# Altium integrated library Texas Instruments Power Management PWM Controller.IntLib: 1227 symbols (part 6 of 49)
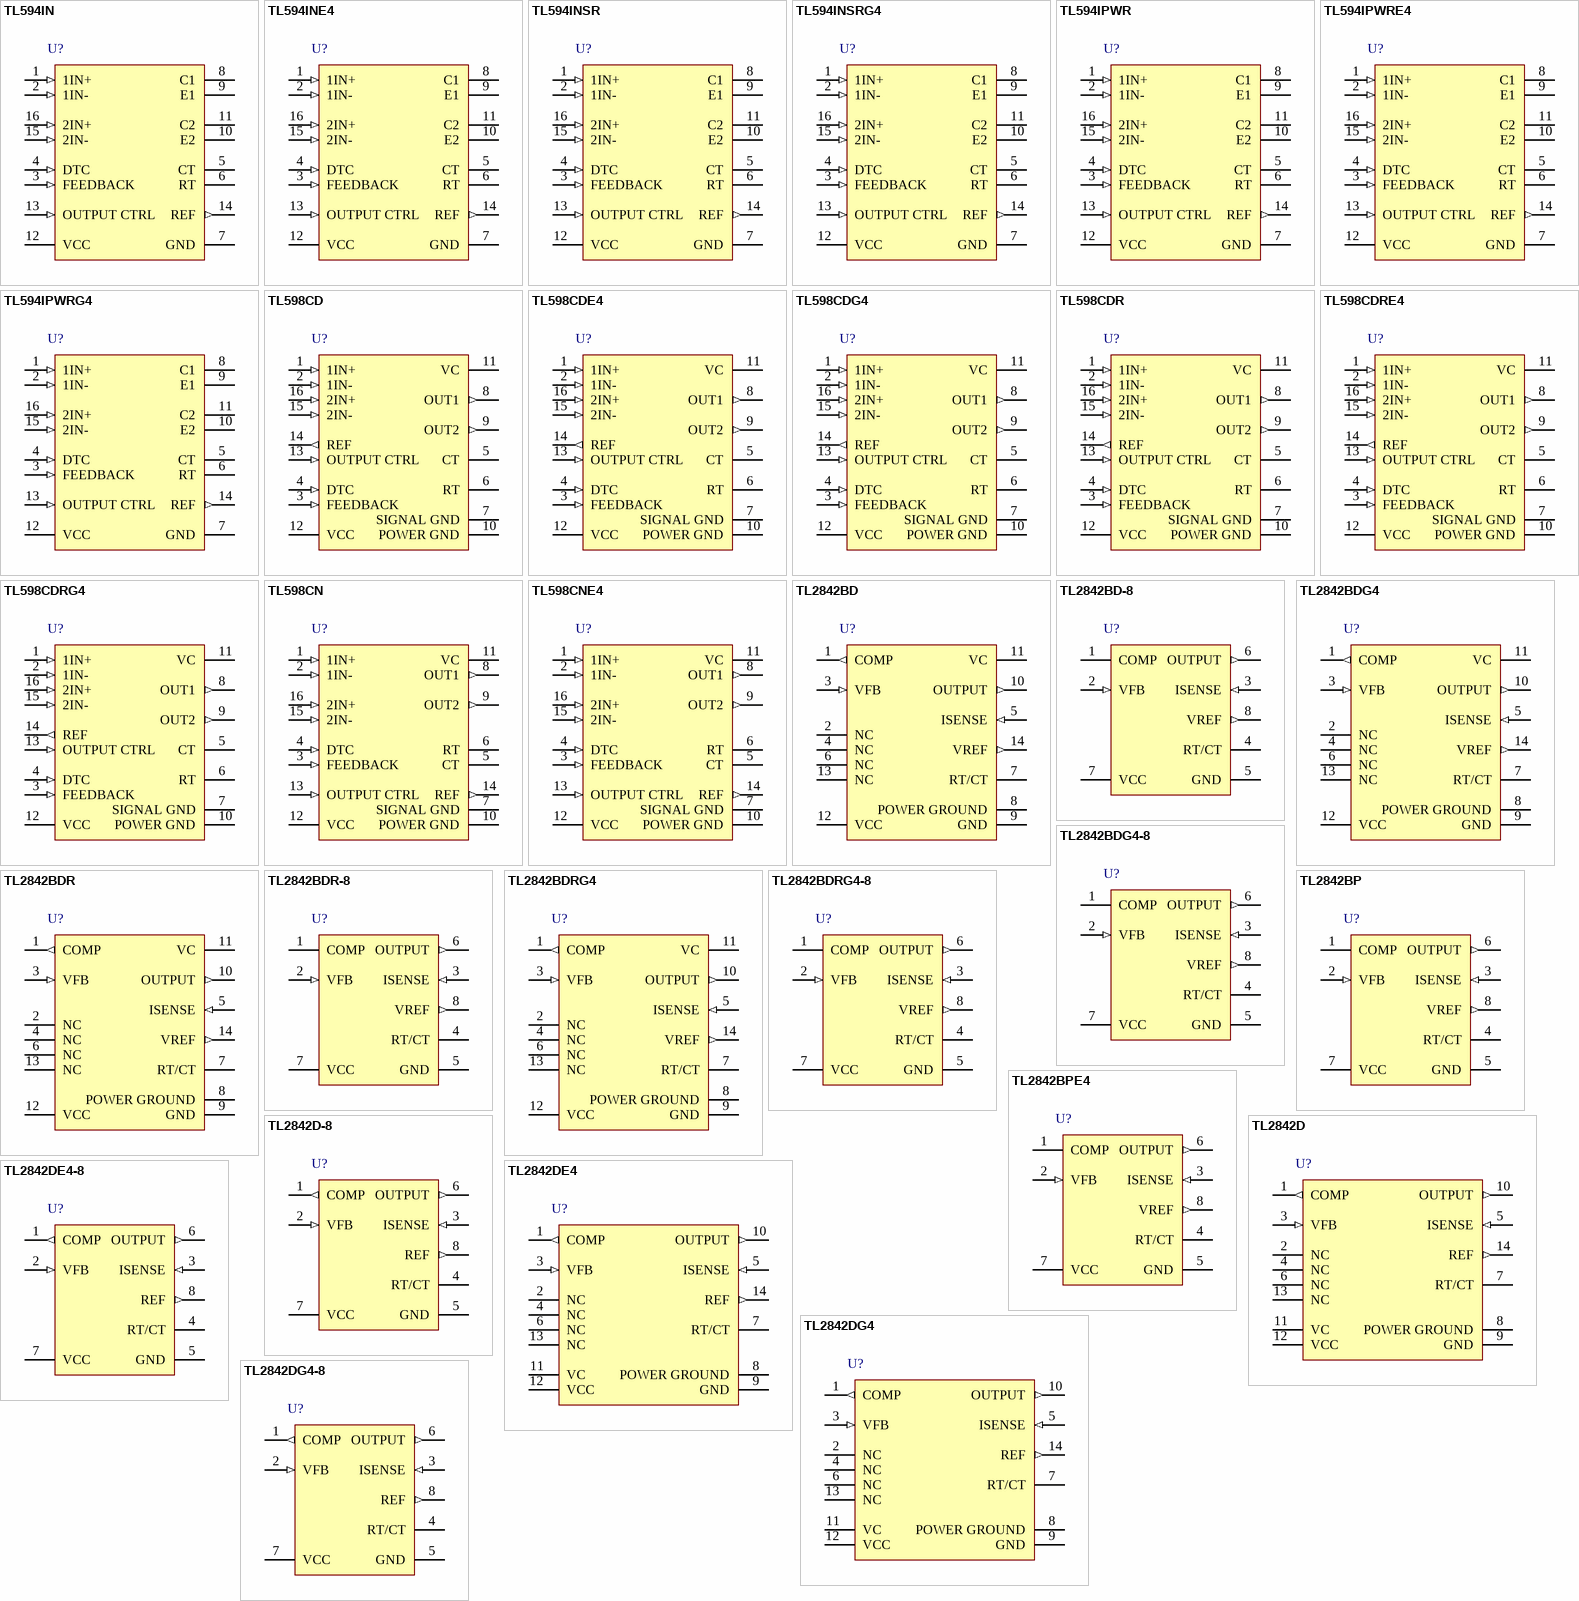
[diagram p48: symbols TL594IN to TL2842DG4-8]

## TL594IPWRE4
designator U?
Pulse-Width-Modulation Control Circuit with Voltage Control, 45 % Duty Cycle, -40 to +85 degC, 16-pin TSSOP (PW), Green (RoHS & no Sb/Br); PartNumber: TL594IPWRE4; Manufacturer: Texas Instruments; Duty Cycle(Max)(%): 45; Frequency(Max)(kHz): 300; Rating: Catalog; Regulated Outputs(#): 2; SubFamily: PWM Controller; Topology: Boost, Flyback, Forward; DatasheetVersion: SLVS052G; PackageVersion: revG, Feb-2011; PackageReference: PW16; PackageDescription: 16-Pin Plastic Thin Small Outline Package 5 x 4.4 mm Body ,0.65 mm Pitch; Supplier 1: Digi-Key; Supplier Part Number 1: TL594IPWRE4-ND; Supplier 2: Newark; Supplier Part Number 2: 69K0656; Supplier 3: Mouser; Supplier Part Number 3: 595-TL594IPWRE4; Control Method: Voltage; Eco-Plan: Green (RoHS & no Sb/Br); UVLO Thresholds On/Off(V): 6.1/6; Mounting Technology: Surface Mount; Code_JEDEC: MO-153; ComponentLink1Description: Datasheet; ComponentLink1URL: http://www.ti.com/general/docs/lit/getliterature.tsp?genericPartNumber=TL594&fileType=pdf
footprint PW16_N (TSOP, 16-Leads, Body 5x4.4mm, Pitch 0.65mm, IPC Medium Density)
footprint PW16_L (TSOP, 16-Leads, Body 5x4.4mm, Pitch 0.65mm, IPC High Density)
footprint PW16_M (TSOP, 16-Leads, Body 5x4.4mm, Pitch 0.65mm, IPC Low Density)
pins: 1 1IN+ (in), 2 1IN- (in), 3 FEEDBACK (in), 4 DTC (in), 5 CT, 6 RT, 7 GND (power), 8 C1, 9 E1, 10 E2, 11 C2, 12 VCC (power), 13 OUTPUT CTRL (in), 14 REF (out), 15 2IN- (in), 16 2IN+ (in)

## TL594IPWRG4
designator U?
Pulse-Width-Modulation Control Circuit with Voltage Control, 45 % Duty Cycle, -40 to +85 degC, 16-pin TSSOP (PW), Green (RoHS & no Sb/Br); PartNumber: TL594IPWRG4; Manufacturer: Texas Instruments; Duty Cycle(Max)(%): 45; Frequency(Max)(kHz): 300; Rating: Catalog; Regulated Outputs(#): 1; SubFamily: PWM Controller; Topology: Boost, Flyback, Forward; DatasheetVersion: SLVS052G; PackageVersion: revG, Feb-2011; PackageReference: PW16; PackageDescription: 16-Pin Plastic Thin Small Outline Package 5 x 4.4 mm Body ,0.65 mm Pitch; Supplier 1: Digi-Key; Supplier Part Number 1: TL594IPWRG4-ND; Supplier 2: Newark; Supplier Part Number 2: 40K9723; Supplier 3: Mouser; Supplier Part Number 3: 595-TL594IPWRG4; Control Method: Voltage; Eco-Plan: Green (RoHS & no Sb/Br); UVLO Thresholds On/Off(V): 6.1/6; Mounting Technology: Surface Mount; Code_JEDEC: MO-153; ComponentLink1Description: Datasheet; ComponentLink1URL: http://www.ti.com/general/docs/lit/getliterature.tsp?genericPartNumber=TL594&fileType=pdf
footprint PW16_N (TSOP, 16-Leads, Body 5x4.4mm, Pitch 0.65mm, IPC Medium Density)
footprint PW16_L (TSOP, 16-Leads, Body 5x4.4mm, Pitch 0.65mm, IPC High Density)
footprint PW16_M (TSOP, 16-Leads, Body 5x4.4mm, Pitch 0.65mm, IPC Low Density)
pins: 1 1IN+ (in), 2 1IN- (in), 3 FEEDBACK (in), 4 DTC (in), 5 CT, 6 RT, 7 GND (power), 8 C1, 9 E1, 10 E2, 11 C2, 12 VCC (power), 13 OUTPUT CTRL (in), 14 REF (out), 15 2IN- (in), 16 2IN+ (in)

## TL598CD
designator U?
Pulse-Width-Modulation Control Circuit with Voltage Control, 45 % Duty Cycle, 0 to +70 degC, 16-pin SOIC (D), Green (RoHS & no Sb/Br); PartNumber: TL598CD; Manufacturer: Texas Instruments; Duty Cycle(Max)(%): 45; Frequency(Max)(kHz): 300; Rating: Military; Regulated Outputs(#): 2; SubFamily: PWM Controller; Topology: Buck; DatasheetVersion: SLVS053D; PackageVersion: revM, Jun-2011; PackageReference: D16; PackageDescription: 16-Pin Plastic Small Outline Integrated Circuit, 9.9 x 3.9 mm, Pitch 1.27 mm Pitch; Supplier 1: Digi-Key; Supplier Part Number 1: 296-10225-5-ND; Supplier 2: Newark; Supplier Part Number 2: 76C9319; Supplier 3: Mouser; Supplier Part Number 3: 595-TL598CD; Control Method: Voltage; Eco-Plan: Green (RoHS & no Sb/Br); UVLO Thresholds On/Off(V): 6.1/6; Mounting Technology: Surface Mount; Code_JEDEC: MS-012AC; ComponentLink1Description: Datasheet; ComponentLink1URL: http://www.ti.com/general/docs/lit/getliterature.tsp?genericPartNumber=TL598&fileType=pdf
footprint D16_N (SOIC, 16-Leads, Body 9.9x3.9mm, Pitch 1.27mm, IPC Medium Density)
footprint D16_L (SOIC, 16-Leads, Body 9.9x3.9mm, Pitch 1.27mm, IPC High Density)
footprint D16_M (SOIC, 16-Leads, Body 9.9x3.9mm, Pitch 1.27mm, IPC Low Density)
pins: 1 1IN+ (in), 2 1IN- (in), 3 FEEDBACK (in), 4 DTC (in), 5 CT, 6 RT, 7 SIGNAL GND (power), 8 OUT1 (out), 9 OUT2 (out), 10 POWER GND (power), 11 VC (power), 12 VCC (power), 13 OUTPUT CTRL (in), 14 REF (out), 15 2IN- (in), 16 2IN+ (in)

## TL598CDE4
designator U?
Pulse-Width-Modulation Control Circuit with Voltage Control, 45 % Duty Cycle, 0 to +70 degC, 16-pin SOIC (D), Green (RoHS & no Sb/Br); PartNumber: TL598CDE4; Manufacturer: Texas Instruments; Duty Cycle(Max)(%): 45; Frequency(Max)(kHz): 300; Rating: Military; Regulated Outputs(#): 2; SubFamily: PWM Controller; Topology: Buck; DatasheetVersion: SLVS053D; PackageVersion: revM, Jun-2011; PackageReference: D16; PackageDescription: 16-Pin Plastic Small Outline Integrated Circuit, 9.9 x 3.9 mm, Pitch 1.27 mm Pitch; Supplier 1: Digi-Key; Supplier Part Number 1: TL598CDE4-ND; Supplier 2: Newark; Supplier Part Number 2: 37K4555; Supplier 3: Mouser; Supplier Part Number 3: 595-TL598CDE4; Control Method: Voltage; Eco-Plan: Green (RoHS & no Sb/Br); UVLO Thresholds On/Off(V): 6.1/6; Mounting Technology: Surface Mount; Code_JEDEC: MS-012AC; ComponentLink1Description: Datasheet; ComponentLink1URL: http://www.ti.com/general/docs/lit/getliterature.tsp?genericPartNumber=TL598&fileType=pdf
footprint D16_N (SOIC, 16-Leads, Body 9.9x3.9mm, Pitch 1.27mm, IPC Medium Density)
footprint D16_L (SOIC, 16-Leads, Body 9.9x3.9mm, Pitch 1.27mm, IPC High Density)
footprint D16_M (SOIC, 16-Leads, Body 9.9x3.9mm, Pitch 1.27mm, IPC Low Density)
pins: 1 1IN+ (in), 2 1IN- (in), 3 FEEDBACK (in), 4 DTC (in), 5 CT, 6 RT, 7 SIGNAL GND (power), 8 OUT1 (out), 9 OUT2 (out), 10 POWER GND (power), 11 VC (power), 12 VCC (power), 13 OUTPUT CTRL (in), 14 REF (out), 15 2IN- (in), 16 2IN+ (in)

## TL598CDG4
designator U?
Pulse-Width-Modulation Control Circuit with Voltage Control, 45 % Duty Cycle, 0 to +70 degC, 16-pin SOIC (D), Green (RoHS & no Sb/Br); PartNumber: TL598CDG4; Manufacturer: Texas Instruments; Duty Cycle(Max)(%): 45; Frequency(Max)(kHz): 300; Rating: Military; Regulated Outputs(#): 2; SubFamily: PWM Controller; Topology: Buck; DatasheetVersion: SLVS053D; PackageVersion: revM, Jun-2011; PackageReference: D16; PackageDescription: 16-Pin Plastic Small Outline Integrated Circuit, 9.9 x 3.9 mm, Pitch 1.27 mm Pitch; Supplier 1: Digi-Key; Supplier Part Number 1: TL598CDG4-ND; Supplier 2: Newark; Supplier Part Number 2: 41M5774; Supplier 3: Mouser; Supplier Part Number 3: 595-TL598CDG4; Control Method: Voltage; Eco-Plan: Green (RoHS & no Sb/Br); UVLO Thresholds On/Off(V): 6.1/6; Mounting Technology: Surface Mount; Code_JEDEC: MS-012AC; ComponentLink1Description: Datasheet; ComponentLink1URL: http://www.ti.com/general/docs/lit/getliterature.tsp?genericPartNumber=TL598&fileType=pdf
footprint D16_N (SOIC, 16-Leads, Body 9.9x3.9mm, Pitch 1.27mm, IPC Medium Density)
footprint D16_L (SOIC, 16-Leads, Body 9.9x3.9mm, Pitch 1.27mm, IPC High Density)
footprint D16_M (SOIC, 16-Leads, Body 9.9x3.9mm, Pitch 1.27mm, IPC Low Density)
pins: 1 1IN+ (in), 2 1IN- (in), 3 FEEDBACK (in), 4 DTC (in), 5 CT, 6 RT, 7 SIGNAL GND (power), 8 OUT1 (out), 9 OUT2 (out), 10 POWER GND (power), 11 VC (power), 12 VCC (power), 13 OUTPUT CTRL (in), 14 REF (out), 15 2IN- (in), 16 2IN+ (in)

## TL598CDR
designator U?
Pulse-Width-Modulation Control Circuit with Voltage Control, 45 % Duty Cycle, 0 to +70 degC, 16-pin SOIC (D), Green (RoHS & no Sb/Br); PartNumber: TL598CDR; Manufacturer: Texas Instruments; Duty Cycle(Max)(%): 45; Frequency(Max)(kHz): 300; Rating: Military; Regulated Outputs(#): 2; SubFamily: PWM Controller; Topology: Buck; DatasheetVersion: SLVS053D; PackageVersion: revM, Jun-2011; PackageReference: D16; PackageDescription: 16-Pin Plastic Small Outline Integrated Circuit, 9.9 x 3.9 mm, Pitch 1.27 mm Pitch; Supplier 1: Digi-Key; Supplier Part Number 1: TL598CDR-ND; Supplier 2: Newark; Supplier Part Number 2: 76C9320; Supplier 3: Mouser; Supplier Part Number 3: 595-TL598CDR; Control Method: Voltage; Eco-Plan: Green (RoHS & no Sb/Br); UVLO Thresholds On/Off(V): 6.1/6; Mounting Technology: Surface Mount; Code_JEDEC: MS-012AC; ComponentLink1Description: Datasheet; ComponentLink1URL: http://www.ti.com/general/docs/lit/getliterature.tsp?genericPartNumber=TL598&fileType=pdf
footprint D16_N (SOIC, 16-Leads, Body 9.9x3.9mm, Pitch 1.27mm, IPC Medium Density)
footprint D16_L (SOIC, 16-Leads, Body 9.9x3.9mm, Pitch 1.27mm, IPC High Density)
footprint D16_M (SOIC, 16-Leads, Body 9.9x3.9mm, Pitch 1.27mm, IPC Low Density)
pins: 1 1IN+ (in), 2 1IN- (in), 3 FEEDBACK (in), 4 DTC (in), 5 CT, 6 RT, 7 SIGNAL GND (power), 8 OUT1 (out), 9 OUT2 (out), 10 POWER GND (power), 11 VC (power), 12 VCC (power), 13 OUTPUT CTRL (in), 14 REF (out), 15 2IN- (in), 16 2IN+ (in)

## TL598CDRE4
designator U?
Pulse-Width-Modulation Control Circuit with Voltage Control, 45 % Duty Cycle, 0 to +70 degC, 16-pin SOIC (D), Green (RoHS & no Sb/Br); PartNumber: TL598CDRE4; Manufacturer: Texas Instruments; Duty Cycle(Max)(%): 45; Frequency(Max)(kHz): 300; Rating: Military; Regulated Outputs(#): 2; SubFamily: PWM Controller; Topology: Buck; DatasheetVersion: SLVS053D; PackageVersion: revM, Jun-2011; PackageReference: D16; PackageDescription: 16-Pin Plastic Small Outline Integrated Circuit, 9.9 x 3.9 mm, Pitch 1.27 mm Pitch; Supplier 1: Digi-Key; Supplier Part Number 1: TL598CDRE4-ND; Supplier 2: Newark; Supplier Part Number 2: 37K4556; Supplier 3: Mouser; Supplier Part Number 3: 595-TL598CDRE4; Control Method: Voltage; Eco-Plan: Green (RoHS & no Sb/Br); UVLO Thresholds On/Off(V): 6.1/6; Mounting Technology: Surface Mount; Code_JEDEC: MS-012AC; ComponentLink1Description: Datasheet; ComponentLink1URL: http://www.ti.com/general/docs/lit/getliterature.tsp?genericPartNumber=TL598&fileType=pdf
footprint D16_N (SOIC, 16-Leads, Body 9.9x3.9mm, Pitch 1.27mm, IPC Medium Density)
footprint D16_L (SOIC, 16-Leads, Body 9.9x3.9mm, Pitch 1.27mm, IPC High Density)
footprint D16_M (SOIC, 16-Leads, Body 9.9x3.9mm, Pitch 1.27mm, IPC Low Density)
pins: 1 1IN+ (in), 2 1IN- (in), 3 FEEDBACK (in), 4 DTC (in), 5 CT, 6 RT, 7 SIGNAL GND (power), 8 OUT1 (out), 9 OUT2 (out), 10 POWER GND (power), 11 VC (power), 12 VCC (power), 13 OUTPUT CTRL (in), 14 REF (out), 15 2IN- (in), 16 2IN+ (in)

## TL598CDRG4
designator U?
Pulse-Width-Modulation Control Circuit with Voltage Control, 45 % Duty Cycle, 0 to +70 degC, 16-pin SOIC (D), Green (RoHS & no Sb/Br); PartNumber: TL598CDRG4; Manufacturer: Texas Instruments; Duty Cycle(Max)(%): 45; Frequency(Max)(kHz): 300; Rating: Military; Regulated Outputs(#): 2; SubFamily: PWM Controller; Topology: Buck; DatasheetVersion: SLVS053D; PackageVersion: revM, Jun-2011; PackageReference: D16; PackageDescription: 16-Pin Plastic Small Outline Integrated Circuit, 9.9 x 3.9 mm, Pitch 1.27 mm Pitch; Supplier 1: Digi-Key; Supplier Part Number 1: TL598CDRG4-ND; Supplier 2: Newark; Supplier Part Number 2: 41M5775; Supplier 3: Mouser; Supplier Part Number 3: 595-TL598CDRG4; Control Method: Voltage; Eco-Plan: Green (RoHS & no Sb/Br); UVLO Thresholds On/Off(V): 6.1/6; Mounting Technology: Surface Mount; Code_JEDEC: MS-012AC; ComponentLink1Description: Datasheet; ComponentLink1URL: http://www.ti.com/general/docs/lit/getliterature.tsp?genericPartNumber=TL598&fileType=pdf
footprint D16_N (SOIC, 16-Leads, Body 9.9x3.9mm, Pitch 1.27mm, IPC Medium Density)
footprint D16_L (SOIC, 16-Leads, Body 9.9x3.9mm, Pitch 1.27mm, IPC High Density)
footprint D16_M (SOIC, 16-Leads, Body 9.9x3.9mm, Pitch 1.27mm, IPC Low Density)
pins: 1 1IN+ (in), 2 1IN- (in), 3 FEEDBACK (in), 4 DTC (in), 5 CT, 6 RT, 7 SIGNAL GND (power), 8 OUT1 (out), 9 OUT2 (out), 10 POWER GND (power), 11 VC (power), 12 VCC (power), 13 OUTPUT CTRL (in), 14 REF (out), 15 2IN- (in), 16 2IN+ (in)

## TL598CN
designator U?
Pulse-Width-Modulation Control Circuit with Voltage Control, 45 % Duty Cycle, 0 to +70 degC, 16-pin PDIP (N), Pb-Free (RoHS); PartNumber: TL598CN; Manufacturer: Texas Instruments; Duty Cycle(Max)(%): 45; Frequency(Max)(kHz): 300; Rating: Military; Regulated Outputs(#): 2; SubFamily: PWM Controller; Topology: Buck; DatasheetVersion: SLVS053D; PackageVersion: revE, Dec-2002; PackageReference: N16; PackageDescription: 16-Pin Plastic Dual-In-Line Package, Row Spacing 7.62 mm, Pitch 2.54 mm; Supplier 1: Digi-Key; Supplier Part Number 1: 296-10226-5-ND; Supplier 2: Farnell; Supplier Part Number 2: 1287657; Supplier 3: Newark; Supplier Part Number 3: 50B7918; Supplier 4: Mouser; Supplier Part Number 4: 595-TL598CN; Control Method: Voltage; Eco-Plan: Pb-Free (RoHS); UVLO Thresholds On/Off(V): 6.1/6; Mounting Technology: Through Hole; Code_JEDEC: MS-001*; ComponentLink1Description: Datasheet; ComponentLink1URL: http://www.ti.com/general/docs/lit/getliterature.tsp?genericPartNumber=TL598&fileType=pdf
footprint N16 (DIP, 16-Leads, Row Spacing 7.62mm, Pitch 2.54mm, Body 19.3x6.4mm)
pins: 1 1IN+ (in), 2 1IN- (in), 3 FEEDBACK (in), 4 DTC (in), 5 CT, 6 RT, 7 SIGNAL GND (power), 8 OUT1 (out), 9 OUT2 (out), 10 POWER GND (power), 11 VC (power), 12 VCC (power), 13 OUTPUT CTRL (in), 14 REF (out), 15 2IN- (in), 16 2IN+ (in)

## TL598CNE4
designator U?
Pulse-Width-Modulation Control Circuit with Voltage Control, 45 % Duty Cycle, 0 to +70 degC, 16-pin PDIP (N), Pb-Free (RoHS); PartNumber: TL598CNE4; Manufacturer: Texas Instruments; Duty Cycle(Max)(%): 45; Frequency(Max)(kHz): 300; Rating: Military; Regulated Outputs(#): 2; SubFamily: PWM Controller; Topology: Buck; DatasheetVersion: SLVS053D; PackageVersion: revE, Dec-2002; PackageReference: N16; PackageDescription: 16-Pin Plastic Dual-In-Line Package, Row Spacing 7.62 mm, Pitch 2.54 mm; Supplier 1: Digi-Key; Supplier Part Number 1: TL598CNE4-ND; Supplier 2: Newark; Supplier Part Number 2: 37K4557; Supplier 3: Mouser; Supplier Part Number 3: 595-TL598CNE4; Control Method: Voltage; Eco-Plan: Pb-Free (RoHS); UVLO Thresholds On/Off(V): 6.1/6; Mounting Technology: Through Hole; Code_JEDEC: MS-001*; ComponentLink1Description: Datasheet; ComponentLink1URL: http://www.ti.com/general/docs/lit/getliterature.tsp?genericPartNumber=TL598&fileType=pdf
footprint N16 (DIP, 16-Leads, Row Spacing 7.62mm, Pitch 2.54mm, Body 19.3x6.4mm)
pins: 1 1IN+ (in), 2 1IN- (in), 3 FEEDBACK (in), 4 DTC (in), 5 CT, 6 RT, 7 SIGNAL GND (power), 8 OUT1 (out), 9 OUT2 (out), 10 POWER GND (power), 11 VC (power), 12 VCC (power), 13 OUTPUT CTRL (in), 14 REF (out), 15 2IN- (in), 16 2IN+ (in)

## TL2842BD
designator U?
High-Performance Current-Mode PWM Controllers with Current control, 100% Duty Cycle, -40 to 85 degC, 14-pin SOIC (D),Green (RoHS & no Sb/Br); PartNumber: TL2842BD; Manufacturer: Texas Instruments; Duty Cycle(Max)(%): 100; Frequency(Max)(kHz): 500; Rating: Catalog; Regulated Outputs(#): 1; Topology: Boost, Flyback, Forward; UVLO Thresholds On/Off(V): 16/10; DatasheetVersion: SLVS610B; PackageVersion: revM, Jun-2011; PackageReference: D14; PackageDescription: 14-Pin Plastic Small Outline Integrated Circuit, 8.7 x 3.9 mm, Pitch 1.27 mm Pitch; Supplier 1: Digi-Key; Supplier Part Number 1: 296-34266-5-ND; Supplier 2: Newark; Supplier Part Number 2: 14M2355; Supplier 3: Mouser; Supplier Part Number 3: 595-TL2842BD; Control Method: Current; Eco-Plan: Green (RoHS & no Sb/Br); SubFamily: PWM Controller; Mounting Technology: Surface Mount; Code_JEDEC: MS-012AB; ComponentLink1Description: Datasheet; ComponentLink1URL: http://www.ti.com/general/docs/lit/getliterature.tsp?genericPartNumber=TL2842B&fileType=pdf
footprint D14_N (SOIC, 14-Leads, Body 8.7x3.9mm, Pitch 1.27mm, IPC Medium Density)
footprint D14_L (SOIC, 14-Leads, Body 8.7x3.9mm, Pitch 1.27mm, IPC High Density)
footprint D14_M (SOIC, 14-Leads, Body 8.7x3.9mm, Pitch 1.27mm, IPC Low Density)
pins: 1 COMP (out), 2 NC, 3 VFB (in), 4 NC, 5 ISENSE (in), 6 NC, 7 RT/CT, 8 POWER GROUND (power), 9 GND (power), 10 OUTPUT (out), 11 VC (power), 12 VCC (power), 13 NC, 14 VREF (out)

## TL2842BD-8
designator U?
High-Performance Current-Mode PWM Controllers with Current control, 100% Duty Cycle, -40 to 85 degC, 8-pin SOIC (D),Green (RoHS & no Sb/Br); PartNumber: TL2842BD-8; Manufacturer: Texas Instruments; Duty Cycle(Max)(%): 100; Frequency(Max)(kHz): 500; Rating: Catalog; Regulated Outputs(#): 1; Topology: Boost, Flyback, Forward; UVLO Thresholds On/Off(V): 16/10; DatasheetVersion: SLVS610B; PackageVersion: revM, Jun-2011; PackageReference: D8; PackageDescription: 8-Pin Plastic Small Outline Integrated Circuit, 4.9 x 3.9 mm, Pitch 1.27 mm Pitch; Supplier 1: Digi-Key; Supplier Part Number 1: 296-34267-5-ND; Supplier 2: Newark; Supplier Part Number 2: 14M2356; Supplier 3: Mouser; Supplier Part Number 3: 595-TL2842BD-8; Control Method: Current; Eco-Plan: Green (RoHS & no Sb/Br); SubFamily: PWM Controller; Mounting Technology: Surface Mount; Code_JEDEC: MS-012AA; ComponentLink1Description: Datasheet; ComponentLink1URL: http://www.ti.com/general/docs/lit/getliterature.tsp?genericPartNumber=TL2842B&fileType=pdf
footprint D8_N (SOIC, 8-Leads, Body 4.9x3.9mm, Pitch 1.27mm, IPC Medium Density)
footprint D8_L (SOIC, 8-Leads, Body 4.9x3.9mm, Pitch 1.27mm, IPC High Density)
footprint D8_M (SOIC, 8-Leads, Body 4.9x3.9mm, Pitch 1.27mm, IPC Low Density)
pins: 1 COMP, 2 VFB (in), 3 ISENSE (in), 4 RT/CT, 5 GND (power), 6 OUTPUT (out), 7 VCC (power), 8 VREF (out)

## TL2842BDG4
designator U?
High-Performance Current-Mode PWM Controllers with Current control, 100% Duty Cycle, -40 to 85 degC, 14-pin SOIC (D),Green (RoHS & no Sb/Br); PartNumber: TL2842BDG4; Manufacturer: Texas Instruments; Duty Cycle(Max)(%): 100; Frequency(Max)(kHz): 500; Rating: Catalog; Regulated Outputs(#): 1; Topology: Boost, Flyback, Forward; UVLO Thresholds On/Off(V): 16/10; DatasheetVersion: SLVS610B; PackageVersion: revM, Jun-2011; PackageReference: D14; PackageDescription: 14-Pin Plastic Small Outline Integrated Circuit, 8.7 x 3.9 mm, Pitch 1.27 mm Pitch; Supplier 1: Digi-Key; Supplier Part Number 1: TL2842BDG4-ND; Supplier 2: Newark; Supplier Part Number 2: 14M2357; Supplier 3: Mouser; Supplier Part Number 3: 595-TL2842BDG4; Control Method: Current; Eco-Plan: Green (RoHS & no Sb/Br); SubFamily: PWM Controller; Mounting Technology: Surface Mount; Code_JEDEC: MS-012AB; ComponentLink1Description: Datasheet; ComponentLink1URL: http://www.ti.com/general/docs/lit/getliterature.tsp?genericPartNumber=TL2842B&fileType=pdf
footprint D14_N (SOIC, 14-Leads, Body 8.7x3.9mm, Pitch 1.27mm, IPC Medium Density)
footprint D14_L (SOIC, 14-Leads, Body 8.7x3.9mm, Pitch 1.27mm, IPC High Density)
footprint D14_M (SOIC, 14-Leads, Body 8.7x3.9mm, Pitch 1.27mm, IPC Low Density)
pins: 1 COMP (out), 2 NC, 3 VFB (in), 4 NC, 5 ISENSE (in), 6 NC, 7 RT/CT, 8 POWER GROUND (power), 9 GND (power), 10 OUTPUT (out), 11 VC (power), 12 VCC (power), 13 NC, 14 VREF (out)

## TL2842BDG4-8
designator U?
High-Performance Current-Mode PWM Controllers with Current control, 100% Duty Cycle, -40 to 85 degC, 8-pin SOIC (D),Green (RoHS & no Sb/Br); PartNumber: TL2842BDG4-8; Manufacturer: Texas Instruments; Duty Cycle(Max)(%): 100; Frequency(Max)(kHz): 500; Rating: Catalog; Regulated Outputs(#): 1; Topology: Boost, Flyback, Forward; UVLO Thresholds On/Off(V): 16/10; DatasheetVersion: SLVS610B; PackageVersion: revM, Jun-2011; PackageReference: D8; PackageDescription: 8-Pin Plastic Small Outline Integrated Circuit, 4.9 x 3.9 mm, Pitch 1.27 mm Pitch; Supplier 1: Digi-Key; Supplier Part Number 1: TL2842BDG4-8-ND; Supplier 2: Newark; Supplier Part Number 2: 14M2358; Supplier 3: Mouser; Supplier Part Number 3: 595-TL2842BDG4-8; Control Method: Current; Eco-Plan: Green (RoHS & no Sb/Br); SubFamily: PWM Controller; Mounting Technology: Surface Mount; Code_JEDEC: MS-012AA; ComponentLink1Description: Datasheet; ComponentLink1URL: http://www.ti.com/general/docs/lit/getliterature.tsp?genericPartNumber=TL2842B&fileType=pdf
footprint D8_N (SOIC, 8-Leads, Body 4.9x3.9mm, Pitch 1.27mm, IPC Medium Density)
footprint D8_L (SOIC, 8-Leads, Body 4.9x3.9mm, Pitch 1.27mm, IPC High Density)
footprint D8_M (SOIC, 8-Leads, Body 4.9x3.9mm, Pitch 1.27mm, IPC Low Density)
pins: 1 COMP, 2 VFB (in), 3 ISENSE (in), 4 RT/CT, 5 GND (power), 6 OUTPUT (out), 7 VCC (power), 8 VREF (out)

## TL2842BDR
designator U?
High-Performance Current-Mode PWM Controllers with Current control, 100% Duty Cycle, -40 to 85 degC, 14-pin SOIC (D),Green (RoHS & no Sb/Br); PartNumber: TL2842BDR; Manufacturer: Texas Instruments; Duty Cycle(Max)(%): 100; Frequency(Max)(kHz): 500; Rating: Catalog; Regulated Outputs(#): 1; Topology: Boost, Flyback, Forward; UVLO Thresholds On/Off(V): 16/10; DatasheetVersion: SLVS610B; PackageVersion: revM, Jun-2011; PackageReference: D14; PackageDescription: 14-Pin Plastic Small Outline Integrated Circuit, 8.7 x 3.9 mm, Pitch 1.27 mm Pitch; Supplier 1: Digi-Key; Supplier Part Number 1: 296-21844-2-ND; Supplier 2: Digi-Key; Supplier Part Number 2: 296-21844-1-ND; Supplier 3: Digi-Key; Supplier Part Number 3: 296-21844-6-ND; Supplier 4: Newark; Supplier Part Number 4: 14M2359; Supplier 5: Mouser; Supplier Part Number 5: 595-TL2842BDR; Control Method: Current; Eco-Plan: Green (RoHS & no Sb/Br); SubFamily: PWM Controller; Mounting Technology: Surface Mount; Code_JEDEC: MS-012AB; ComponentLink1Description: Datasheet; ComponentLink1URL: http://www.ti.com/general/docs/lit/getliterature.tsp?genericPartNumber=TL2842B&fileType=pdf; ComponentLink2Description: URL Link1; ComponentLink2URL: Samples URL:http://www.ti.com/lit/ds/symlink/tl2842b.pdf
footprint D14_N (SOIC, 14-Leads, Body 8.7x3.9mm, Pitch 1.27mm, IPC Medium Density)
footprint D14_L (SOIC, 14-Leads, Body 8.7x3.9mm, Pitch 1.27mm, IPC High Density)
footprint D14_M (SOIC, 14-Leads, Body 8.7x3.9mm, Pitch 1.27mm, IPC Low Density)
pins: 1 COMP (out), 2 NC, 3 VFB (in), 4 NC, 5 ISENSE (in), 6 NC, 7 RT/CT, 8 POWER GROUND (power), 9 GND (power), 10 OUTPUT (out), 11 VC (power), 12 VCC (power), 13 NC, 14 VREF (out)

## TL2842BDR-8
designator U?
High-Performance Current-Mode PWM Controllers with Current control, 100% Duty Cycle, -40 to 85 degC, 8-pin SOIC (D),Green (RoHS & no Sb/Br); PartNumber: TL2842BDR-8; Manufacturer: Texas Instruments; Duty Cycle(Max)(%): 100; Frequency(Max)(kHz): 500; Rating: Catalog; Regulated Outputs(#): 1; Topology: Boost, Flyback, Forward; UVLO Thresholds On/Off(V): 16/10; DatasheetVersion: SLVS610B; PackageVersion: revM, Jun-2011; PackageReference: D8; PackageDescription: 8-Pin Plastic Small Outline Integrated Circuit, 4.9 x 3.9 mm, Pitch 1.27 mm Pitch; Supplier 1: Digi-Key; Supplier Part Number 1: 296-21845-2-ND; Supplier 2: Digi-Key; Supplier Part Number 2: 296-21845-1-ND; Supplier 3: Digi-Key; Supplier Part Number 3: 296-21845-6-ND; Supplier 4: Newark; Supplier Part Number 4: 14M2360; Supplier 5: Mouser; Supplier Part Number 5: 595-TL2842BDR-8; Control Method: Current; Eco-Plan: Green (RoHS & no Sb/Br); SubFamily: PWM Controller; Mounting Technology: Surface Mount; Code_JEDEC: MS-012AA; ComponentLink1Description: Datasheet; ComponentLink1URL: http://www.ti.com/general/docs/lit/getliterature.tsp?genericPartNumber=TL2842B&fileType=pdf
footprint D8_N (SOIC, 8-Leads, Body 4.9x3.9mm, Pitch 1.27mm, IPC Medium Density)
footprint D8_L (SOIC, 8-Leads, Body 4.9x3.9mm, Pitch 1.27mm, IPC High Density)
footprint D8_M (SOIC, 8-Leads, Body 4.9x3.9mm, Pitch 1.27mm, IPC Low Density)
pins: 1 COMP, 2 VFB (in), 3 ISENSE (in), 4 RT/CT, 5 GND (power), 6 OUTPUT (out), 7 VCC (power), 8 VREF (out)

## TL2842BDRG4
designator U?
High-Performance Current-Mode PWM Controllers with Current control, 100% Duty Cycle, -40 to 85 degC, 14-pin SOIC (D),Green (RoHS & no Sb/Br); PartNumber: TL2842BDRG4; Manufacturer: Texas Instruments; Duty Cycle(Max)(%): 100; Frequency(Max)(kHz): 500; Rating: Catalog; Regulated Outputs(#): 1; Topology: Boost, Flyback, Forward; UVLO Thresholds On/Off(V): 16/10; DatasheetVersion: SLVS610B; PackageVersion: revM, Jun-2011; PackageReference: D14; PackageDescription: 14-Pin Plastic Small Outline Integrated Circuit, 8.7 x 3.9 mm, Pitch 1.27 mm Pitch; Supplier 1: Digi-Key; Supplier Part Number 1: TL2842BDRG4-ND; Supplier 2: Newark; Supplier Part Number 2: 14M2361; Supplier 3: Mouser; Supplier Part Number 3: 595-TL2842BDRG4; Control Method: Current; Eco-Plan: Green (RoHS & no Sb/Br); SubFamily: PWM Controller; Mounting Technology: Surface Mount; Code_JEDEC: MS-012AB; ComponentLink1Description: Datasheet; ComponentLink1URL: http://www.ti.com/general/docs/lit/getliterature.tsp?genericPartNumber=TL2842B&fileType=pdf
footprint D14_N (SOIC, 14-Leads, Body 8.7x3.9mm, Pitch 1.27mm, IPC Medium Density)
footprint D14_L (SOIC, 14-Leads, Body 8.7x3.9mm, Pitch 1.27mm, IPC High Density)
footprint D14_M (SOIC, 14-Leads, Body 8.7x3.9mm, Pitch 1.27mm, IPC Low Density)
pins: 1 COMP (out), 2 NC, 3 VFB (in), 4 NC, 5 ISENSE (in), 6 NC, 7 RT/CT, 8 POWER GROUND (power), 9 GND (power), 10 OUTPUT (out), 11 VC (power), 12 VCC (power), 13 NC, 14 VREF (out)

## TL2842BDRG4-8
designator U?
High-Performance Current-Mode PWM Controllers with Current control, 100% Duty Cycle, -40 to 85 degC, 8-pin SOIC (D),Green (RoHS & no Sb/Br); PartNumber: TL2842BDRG4-8; Manufacturer: Texas Instruments; Duty Cycle(Max)(%): 100; Frequency(Max)(kHz): 500; Rating: Catalog; Regulated Outputs(#): 1; Topology: Boost, Flyback, Forward; UVLO Thresholds On/Off(V): 16/10; DatasheetVersion: SLVS610B; PackageVersion: revM, Jun-2011; PackageReference: D8; PackageDescription: 8-Pin Plastic Small Outline Integrated Circuit, 4.9 x 3.9 mm, Pitch 1.27 mm Pitch; Supplier 1: Digi-Key; Supplier Part Number 1: TL2842BDRG4-8-ND; Supplier 2: Newark; Supplier Part Number 2: 14M2362; Supplier 3: Mouser; Supplier Part Number 3: 595-TL2842BDRG4-8; Control Method: Current; Eco-Plan: Green (RoHS & no Sb/Br); SubFamily: PWM Controller; Mounting Technology: Surface Mount; Code_JEDEC: MS-012AA; ComponentLink1Description: Datasheet; ComponentLink1URL: http://www.ti.com/general/docs/lit/getliterature.tsp?genericPartNumber=TL2842B&fileType=pdf
footprint D8_N (SOIC, 8-Leads, Body 4.9x3.9mm, Pitch 1.27mm, IPC Medium Density)
footprint D8_L (SOIC, 8-Leads, Body 4.9x3.9mm, Pitch 1.27mm, IPC High Density)
footprint D8_M (SOIC, 8-Leads, Body 4.9x3.9mm, Pitch 1.27mm, IPC Low Density)
pins: 1 COMP, 2 VFB (in), 3 ISENSE (in), 4 RT/CT, 5 GND (power), 6 OUTPUT (out), 7 VCC (power), 8 VREF (out)

## TL2842BP
designator U?
High-Performance Current-Mode PWM Controllers with Current control, 100% Duty Cycle, -40 to 85 degC, 8-pin PDIP (P),Pb-Free (RoHS); PartNumber: TL2842BP; Manufacturer: Texas Instruments; Duty Cycle(Max)(%): 100; Frequency(Max)(kHz): 500; Rating: Catalog; Regulated Outputs(#): 1; Topology: Boost, Flyback, Forward; UVLO Thresholds On/Off(V): 16/10; DatasheetVersion: SLVS610B; PackageVersion: revE, Apr-2010; PackageReference: P8; PackageDescription: 8-Pin Plastic Dual-In-Line Package, Row Spacing 7.62 mm, Pitch 2.54 mm; Supplier 1: Digi-Key; Supplier Part Number 1: TL2842BP-ND; Supplier 2: Newark; Supplier Part Number 2: 14M2363; Supplier 3: Mouser; Supplier Part Number 3: 595-TL2842BP; Control Method: Current; Eco-Plan: Pb-Free (RoHS); SubFamily: PWM Controller; Mounting Technology: Through Hole; Code_JEDEC: MS-001-BA; ComponentLink1Description: Datasheet; ComponentLink1URL: http://www.ti.com/general/docs/lit/getliterature.tsp?genericPartNumber=TL2842B&fileType=pdf
footprint P8 (DIP, 8-Leads, Row Spacing 7.62mm, Pitch 2.54mm, Body 9.6x6.4mm)
pins: 1 COMP, 2 VFB (in), 3 ISENSE (in), 4 RT/CT, 5 GND (power), 6 OUTPUT (out), 7 VCC (power), 8 VREF (out)

## TL2842BPE4
designator U?
High-Performance PWM Controller with Current Control, 100 % Duty Cycle, -40 to +85 degC, 8-pin PDIP (P), Pb-Free (RoHS); PartNumber: TL2842BPE4; Manufacturer: Texas Instruments; Duty Cycle(Max)(%): 100; Frequency(Max)(kHz): 500; Rating: Catalog; Regulated Outputs(#): 1; Topology: Boost, Flyback, Forward; UVLO Thresholds On/Off(V): 16/10; DatasheetVersion: SLVS610B; PackageVersion: revE, Apr-2010; PackageReference: P8; PackageDescription: 8-Pin Plastic Dual-In-Line Package, Row Spacing 7.62 mm, Pitch 2.54 mm; Supplier 1: Digi-Key; Supplier Part Number 1: TL2842BPE4-ND; Supplier 2: Newark; Supplier Part Number 2: 14M2364; Supplier 3: Mouser; Supplier Part Number 3: 595-TL2842BPE4; Control Method: Current; Eco-Plan: Pb-Free(RoHS); SubFamily: PWM Controller; Mounting Technology: Through Hole; Code_JEDEC: MS-001-BA; ComponentLink1Description: Datasheet; ComponentLink1URL: http://www.ti.com/general/docs/lit/getliterature.tsp?genericPartNumber=TL2842B&fileType=pdf
footprint P8 (DIP, 8-Leads, Row Spacing 7.62mm, Pitch 2.54mm, Body 9.6x6.4mm)
pins: 1 COMP, 2 VFB (in), 3 ISENSE (in), 4 RT/CT, 5 GND (power), 6 OUTPUT (out), 7 VCC (power), 8 VREF (out)

## TL2842D
designator U?
PWM Controller with Current Control, 100 % Duty Cycle, -40 to +85 degC, 14-pin SOIC (D), Green (RoHS & no Sb/Br); PartNumber: TL2842D; Manufacturer: Texas Instruments; Duty Cycle(Max)(%): 100; Frequency(Max)(kHz): 500; Rating: Catalog; Regulated Outputs(#): 1; Topology: Boost, Flyback, Forward; UVLO Thresholds On/Off(V): 16/10; DatasheetVersion: SLVS038G; PackageVersion: revM, Jun-2011; PackageReference: D14; PackageDescription: 14-Pin Plastic Small Outline Integrated Circuit, 8.7 x 3.9 mm, Pitch 1.27 mm Pitch; Supplier 1: Digi-Key; Supplier Part Number 1: TL2842D-ND; Supplier 2: Newark; Supplier Part Number 2: 76C9191; Supplier 3: Mouser; Supplier Part Number 3: 595-TL2842D; Control Method: Current; Eco-Plan: Green (RoHS & no Sb/Br); SubFamily: PWM Controller; Mounting Technology: Surface Mount; Code_JEDEC: MS-012AB; ComponentLink1Description: Datasheet; ComponentLink1URL: http://www.ti.com/general/docs/lit/getliterature.tsp?genericPartNumber=TL2842&fileType=pdf
footprint D14_N (SOIC, 14-Leads, Body 8.7x3.9mm, Pitch 1.27mm, IPC Medium Density)
footprint D14_L (SOIC, 14-Leads, Body 8.7x3.9mm, Pitch 1.27mm, IPC High Density)
footprint D14_M (SOIC, 14-Leads, Body 8.7x3.9mm, Pitch 1.27mm, IPC Low Density)
pins: 1 COMP (out), 2 NC, 3 VFB (in), 4 NC, 5 ISENSE (in), 6 NC, 7 RT/CT, 8 POWER GROUND (power), 9 GND (power), 10 OUTPUT (out), 11 VC (power), 12 VCC (power), 13 NC, 14 REF (out)

## TL2842D-8
designator U?
PWM Controller with Current Control, 100 % Duty Cycle, -40 to +85 degC, 8-pin SOIC (D), Green (RoHS & no Sb/Br); PartNumber: TL2842D-8; Manufacturer: Texas Instruments; Duty Cycle(Max)(%): 100; Frequency(Max)(kHz): 500; Rating: Catalog; Regulated Outputs(#): 1; Topology: Boost, Flyback, Forward; UVLO Thresholds On/Off(V): 16/10; DatasheetVersion: SLVS038G; PackageVersion: revM, Jun-2011; PackageReference: D8; PackageDescription: 8-Pin Plastic Small Outline Integrated Circuit, 4.9 x 3.9 mm, Pitch 1.27 mm Pitch; Supplier 1: Digi-Key; Supplier Part Number 1: 296-34268-5-ND; Supplier 2: Newark; Supplier Part Number 2: 76C9192; Supplier 3: Mouser; Supplier Part Number 3: 595-TL2842D-8; Control Method: Current; Eco-Plan: Green (RoHS & no Sb/Br); SubFamily: PWM Controller; Mounting Technology: Surface Mount; Code_JEDEC: MS-012AA; ComponentLink1Description: Datasheet; ComponentLink1URL: http://www.ti.com/general/docs/lit/getliterature.tsp?genericPartNumber=TL2842&fileType=pdf
footprint D8_N (SOIC, 8-Leads, Body 4.9x3.9mm, Pitch 1.27mm, IPC Medium Density)
footprint D8_L (SOIC, 8-Leads, Body 4.9x3.9mm, Pitch 1.27mm, IPC High Density)
footprint D8_M (SOIC, 8-Leads, Body 4.9x3.9mm, Pitch 1.27mm, IPC Low Density)
pins: 1 COMP (out), 2 VFB (in), 3 ISENSE (in), 4 RT/CT, 5 GND (power), 6 OUTPUT (out), 7 VCC (power), 8 REF (out)

## TL2842DE4
designator U?
PWM Controller with Current Control, 100 % Duty Cycle, -40 to +85 degC, 14-pin SOIC (D), Green (RoHS & no Sb/Br); PartNumber: TL2842DE4; Manufacturer: Texas Instruments; Duty Cycle(Max)(%): 100; Frequency(Max)(kHz): 500; Rating: Catalog; Regulated Outputs(#): 1; Topology: Boost, Flyback, Forward; UVLO Thresholds On/Off(V): 16/10; DatasheetVersion: SLVS038G; PackageVersion: revM, Jun-2011; PackageReference: D14; PackageDescription: 14-Pin Plastic Small Outline Integrated Circuit, 8.7 x 3.9 mm, Pitch 1.27 mm Pitch; Supplier 1: Digi-Key; Supplier Part Number 1: TL2842DE4-ND; Supplier 2: Newark; Supplier Part Number 2: 37K4418; Supplier 3: Mouser; Supplier Part Number 3: 595-TL2842DE4; Control Method: Current; Eco-Plan: Green (RoHS & no Sb/Br); SubFamily: PWM Controller; Mounting Technology: Surface Mount; Code_JEDEC: MS-012AB; ComponentLink1Description: Datasheet; ComponentLink1URL: http://www.ti.com/general/docs/lit/getliterature.tsp?genericPartNumber=TL2842&fileType=pdf
footprint D14_N (SOIC, 14-Leads, Body 8.7x3.9mm, Pitch 1.27mm, IPC Medium Density)
footprint D14_L (SOIC, 14-Leads, Body 8.7x3.9mm, Pitch 1.27mm, IPC High Density)
footprint D14_M (SOIC, 14-Leads, Body 8.7x3.9mm, Pitch 1.27mm, IPC Low Density)
pins: 1 COMP (out), 2 NC, 3 VFB (in), 4 NC, 5 ISENSE (in), 6 NC, 7 RT/CT, 8 POWER GROUND (power), 9 GND (power), 10 OUTPUT (out), 11 VC (power), 12 VCC (power), 13 NC, 14 REF (out)

## TL2842DE4-8
designator U?
PWM Controller with Current Control, 100 % Duty Cycle, -40 to +85 degC, 8-pin SOIC (D), Green (RoHS & no Sb/Br); PartNumber: TL2842DE4-8; Manufacturer: Texas Instruments; Duty Cycle(Max)(%): 100; Frequency(Max)(kHz): 500; Rating: Catalog; Regulated Outputs(#): 1; Topology: Boost, Flyback, Forward; UVLO Thresholds On/Off(V): 16/10; DatasheetVersion: SLVS038G; PackageVersion: revM, Jun-2011; PackageReference: D8; PackageDescription: 8-Pin Plastic Small Outline Integrated Circuit, 4.9 x 3.9 mm, Pitch 1.27 mm Pitch; Supplier 1: Digi-Key; Supplier Part Number 1: TL2842DE4-8-ND; Supplier 2: Newark; Supplier Part Number 2: 37K4419; Supplier 3: Mouser; Supplier Part Number 3: 595-TL2842DE4-8; Control Method: Current; Eco-Plan: Green (RoHS & no Sb/Br); SubFamily: PWM Controller; Mounting Technology: Surface Mount; Code_JEDEC: MS-012AA; ComponentLink1Description: Datasheet; ComponentLink1URL: http://www.ti.com/general/docs/lit/getliterature.tsp?genericPartNumber=TL2842&fileType=pdf
footprint D8_N (SOIC, 8-Leads, Body 4.9x3.9mm, Pitch 1.27mm, IPC Medium Density)
footprint D8_L (SOIC, 8-Leads, Body 4.9x3.9mm, Pitch 1.27mm, IPC High Density)
footprint D8_M (SOIC, 8-Leads, Body 4.9x3.9mm, Pitch 1.27mm, IPC Low Density)
pins: 1 COMP (out), 2 VFB (in), 3 ISENSE (in), 4 RT/CT, 5 GND (power), 6 OUTPUT (out), 7 VCC (power), 8 REF (out)

## TL2842DG4
designator U?
PWM Controller with Current Control, 100 % Duty Cycle, -40 to +85 degC, 14-pin SOIC (D), Green (RoHS & no Sb/Br); PartNumber: TL2842DG4; Manufacturer: Texas Instruments; Duty Cycle(Max)(%): 100; Frequency(Max)(kHz): 500; Rating: Catalog; Regulated Outputs(#): 1; Topology: Boost, Flyback, Forward; UVLO Thresholds On/Off(V): 16/10; DatasheetVersion: SLVS038G; PackageVersion: revM, Jun-2011; PackageReference: D14; PackageDescription: 14-Pin Plastic Small Outline Integrated Circuit, 8.7 x 3.9 mm, Pitch 1.27 mm Pitch; Supplier 1: Digi-Key; Supplier Part Number 1: TL2842DG4-ND; Supplier 2: Newark; Supplier Part Number 2: 41M5627; Supplier 3: Mouser; Supplier Part Number 3: 595-TL2842DG4; Control Method: Current; Eco-Plan: Green (RoHS & no Sb/Br); SubFamily: PWM Controller; Mounting Technology: Surface Mount; Code_JEDEC: MS-012AB; ComponentLink1Description: Datasheet; ComponentLink1URL: http://www.ti.com/general/docs/lit/getliterature.tsp?genericPartNumber=TL2842&fileType=pdf
footprint D14_N (SOIC, 14-Leads, Body 8.7x3.9mm, Pitch 1.27mm, IPC Medium Density)
footprint D14_L (SOIC, 14-Leads, Body 8.7x3.9mm, Pitch 1.27mm, IPC High Density)
footprint D14_M (SOIC, 14-Leads, Body 8.7x3.9mm, Pitch 1.27mm, IPC Low Density)
pins: 1 COMP (out), 2 NC, 3 VFB (in), 4 NC, 5 ISENSE (in), 6 NC, 7 RT/CT, 8 POWER GROUND (power), 9 GND (power), 10 OUTPUT (out), 11 VC (power), 12 VCC (power), 13 NC, 14 REF (out)

## TL2842DG4-8
designator U?
PWM Controller with Current Control, 100 % Duty Cycle, -40 to +85 degC, 8-pin SOIC (D), Green (RoHS & no Sb/Br); PartNumber: TL2842DG4-8; Manufacturer: Texas Instruments; Duty Cycle(Max)(%): 100; Frequency(Max)(kHz): 500; Rating: Catalog; Regulated Outputs(#): 1; Topology: Boost, Flyback, Forward; UVLO Thresholds On/Off(V): 16/10; DatasheetVersion: SLVS038G; PackageVersion: revM, Jun-2011; PackageReference: D8; PackageDescription: 8-Pin Plastic Small Outline Integrated Circuit, 4.9 x 3.9 mm, Pitch 1.27 mm Pitch; Supplier 1: Digi-Key; Supplier Part Number 1: TL2842DG4-8-ND; Supplier 2: Newark; Supplier Part Number 2: 41M5628; Supplier 3: Mouser; Supplier Part Number 3: 595-TL2842DG4-8; Control Method: Current; Eco-Plan: Green (RoHS & no Sb/Br); SubFamily: PWM Controller; Mounting Technology: Surface Mount; Code_JEDEC: MS-012AA; ComponentLink1Description: Datasheet; ComponentLink1URL: http://www.ti.com/general/docs/lit/getliterature.tsp?genericPartNumber=TL2842&fileType=pdf
footprint D8_N (SOIC, 8-Leads, Body 4.9x3.9mm, Pitch 1.27mm, IPC Medium Density)
footprint D8_L (SOIC, 8-Leads, Body 4.9x3.9mm, Pitch 1.27mm, IPC High Density)
footprint D8_M (SOIC, 8-Leads, Body 4.9x3.9mm, Pitch 1.27mm, IPC Low Density)
pins: 1 COMP (out), 2 VFB (in), 3 ISENSE (in), 4 RT/CT, 5 GND (power), 6 OUTPUT (out), 7 VCC (power), 8 REF (out)

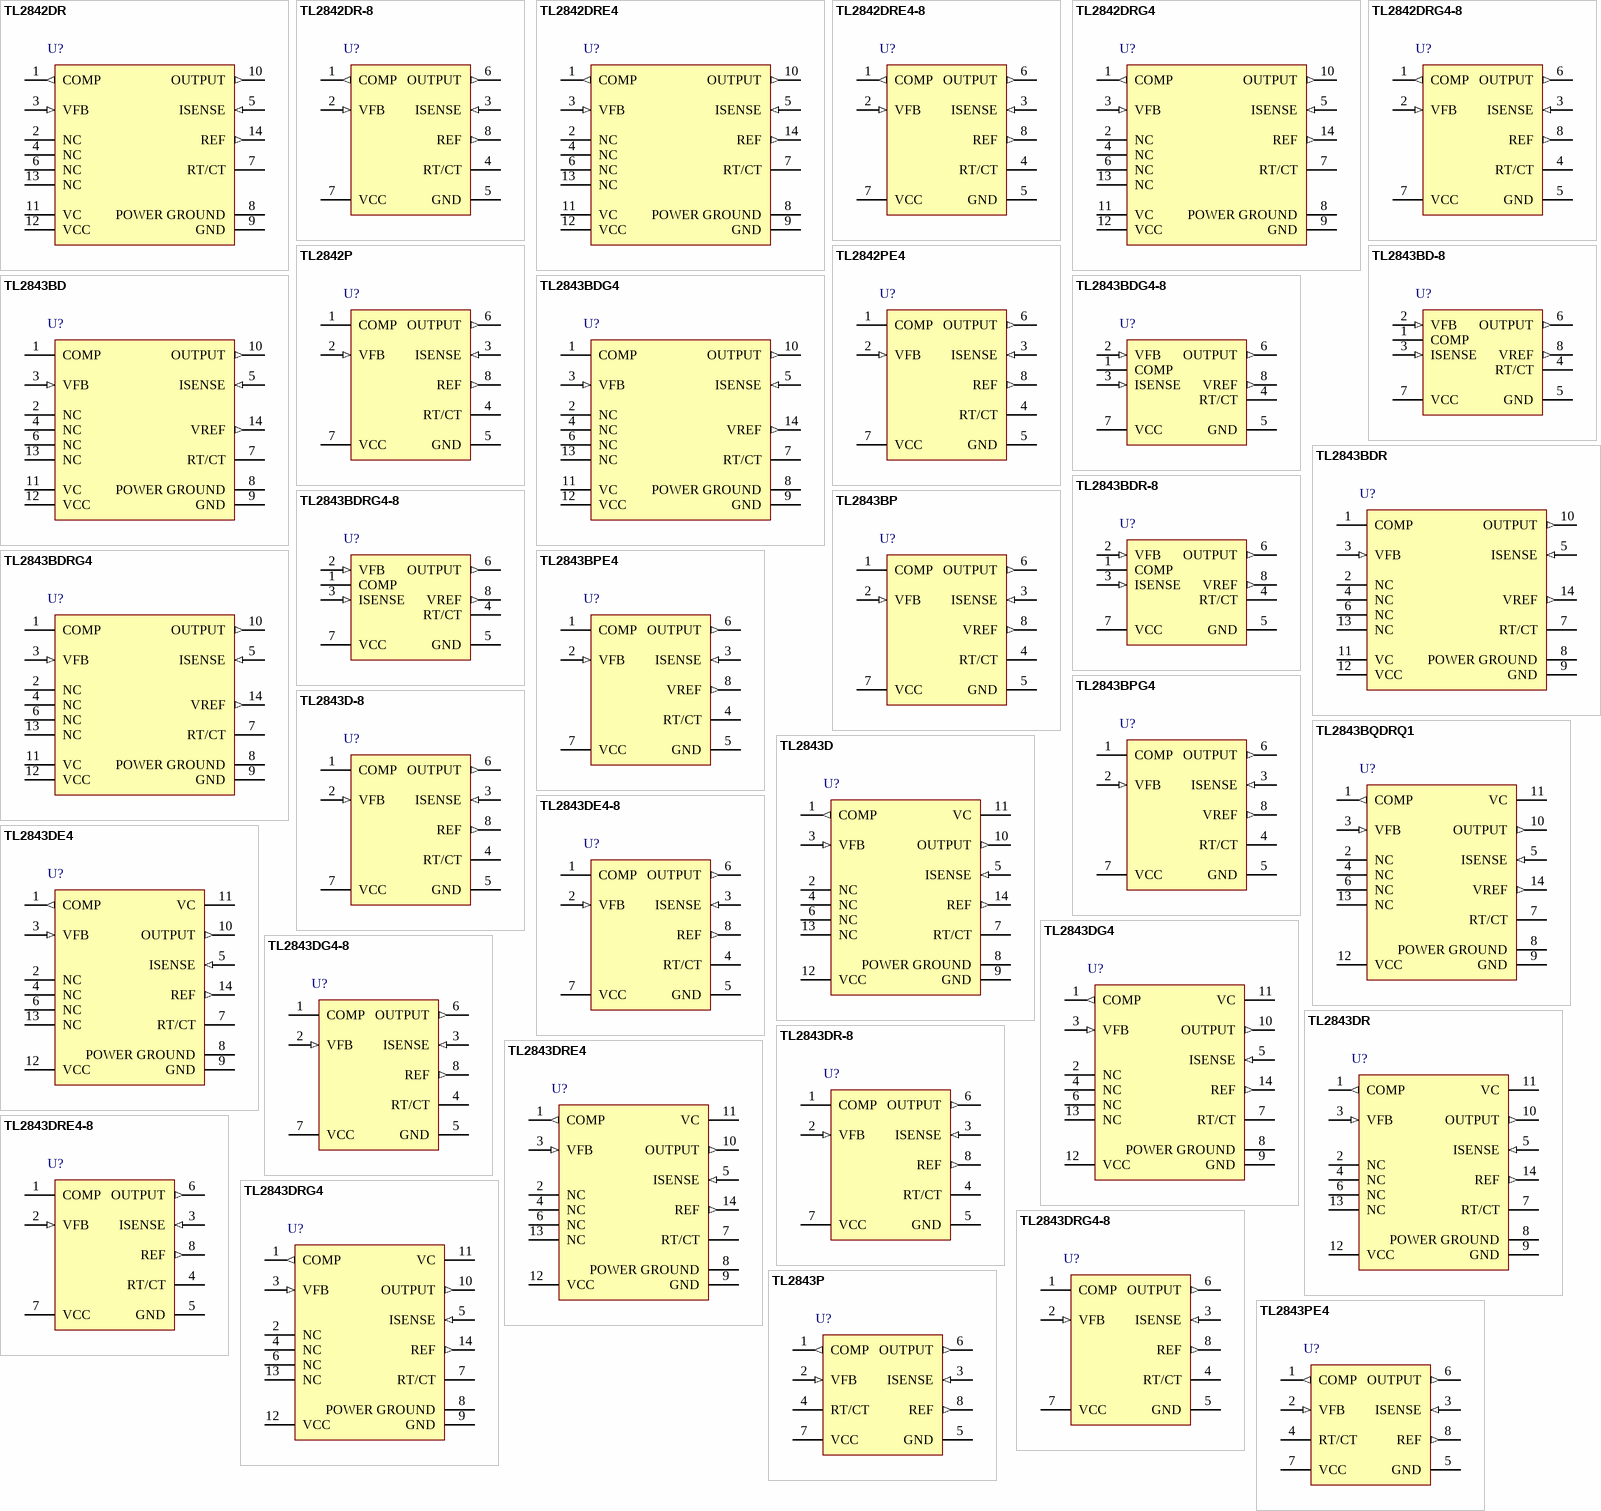
[diagram p7: symbols TL2842DR to TL2843PE4]

## TL2842DR
designator U?
PWM Controller with Current Control, 100 % Duty Cycle, -40 to +85 degC, 14-pin SOIC (D), Green (RoHS & no Sb/Br); PartNumber: TL2842DR; Manufacturer: Texas Instruments; Duty Cycle(Max)(%): 100; Frequency(Max)(kHz): 500; Rating: Catalog; Regulated Outputs(#): 1; Topology: Boost, Flyback, Forward; UVLO Thresholds On/Off(V): 16/10; DatasheetVersion: SLVS038G; PackageVersion: revM, Jun-2011; PackageReference: D14; PackageDescription: 14-Pin Plastic Small Outline Integrated Circuit, 8.7 x 3.9 mm, Pitch 1.27 mm Pitch; Supplier 1: Digi-Key; Supplier Part Number 1: TL2842DR-ND; Supplier 2: Newark; Supplier Part Number 2: 76C9193; Supplier 3: Mouser; Supplier Part Number 3: 595-TL2842DR; Control Method: Current; Eco-Plan: Green (RoHS & no Sb/Br); SubFamily: PWM Controller; Mounting Technology: Surface Mount; Code_JEDEC: MS-012AB; ComponentLink1Description: Datasheet; ComponentLink1URL: http://www.ti.com/general/docs/lit/getliterature.tsp?genericPartNumber=TL2842&fileType=pdf
footprint D14_N (SOIC, 14-Leads, Body 8.7x3.9mm, Pitch 1.27mm, IPC Medium Density)
footprint D14_L (SOIC, 14-Leads, Body 8.7x3.9mm, Pitch 1.27mm, IPC High Density)
footprint D14_M (SOIC, 14-Leads, Body 8.7x3.9mm, Pitch 1.27mm, IPC Low Density)
pins: 1 COMP (out), 2 NC, 3 VFB (in), 4 NC, 5 ISENSE (in), 6 NC, 7 RT/CT, 8 POWER GROUND (power), 9 GND (power), 10 OUTPUT (out), 11 VC (power), 12 VCC (power), 13 NC, 14 REF (out)

## TL2842DR-8
designator U?
PWM Controller with Current Control, 100 % Duty Cycle, -40 to +85 degC, 8-pin SOIC (D), Green (RoHS & no Sb/Br); PartNumber: TL2842DR-8; Manufacturer: Texas Instruments; Duty Cycle(Max)(%): 100; Frequency(Max)(kHz): 500; Rating: Catalog; Regulated Outputs(#): 1; Topology: Boost, Flyback, Forward; UVLO Thresholds On/Off(V): 16/10; DatasheetVersion: SLVS038G; PackageVersion: revM, Jun-2011; PackageReference: D8; PackageDescription: 8-Pin Plastic Small Outline Integrated Circuit, 4.9 x 3.9 mm, Pitch 1.27 mm Pitch; Supplier 1: Digi-Key; Supplier Part Number 1: 296-12998-2-ND; Supplier 2: Digi-Key; Supplier Part Number 2: 296-12998-1-ND; Supplier 3: Digi-Key; Supplier Part Number 3: 296-12998-6-ND; Supplier 4: Newark; Supplier Part Number 4: 76C9194; Supplier 5: Mouser; Supplier Part Number 5: 595-TL2842DR-8; Control Method: Current; Eco-Plan: Green (RoHS & no Sb/Br); SubFamily: PWM Controller; Mounting Technology: Surface Mount; Code_JEDEC: MS-012AA; ComponentLink1Description: Datasheet; ComponentLink1URL: http://www.ti.com/general/docs/lit/getliterature.tsp?genericPartNumber=TL2842&fileType=pdf
footprint D8_N (SOIC, 8-Leads, Body 4.9x3.9mm, Pitch 1.27mm, IPC Medium Density)
footprint D8_L (SOIC, 8-Leads, Body 4.9x3.9mm, Pitch 1.27mm, IPC High Density)
footprint D8_M (SOIC, 8-Leads, Body 4.9x3.9mm, Pitch 1.27mm, IPC Low Density)
pins: 1 COMP (out), 2 VFB (in), 3 ISENSE (in), 4 RT/CT, 5 GND (power), 6 OUTPUT (out), 7 VCC (power), 8 REF (out)

## TL2842DRE4
designator U?
PWM Controller with Current Control, 100 % Duty Cycle, -40 to +85 degC, 14-pin SOIC (D), Green (RoHS & no Sb/Br); PartNumber: TL2842DRE4; Manufacturer: Texas Instruments; Duty Cycle(Max)(%): 100; Frequency(Max)(kHz): 500; Rating: Catalog; Regulated Outputs(#): 1; Topology: Boost, Flyback, Forward; UVLO Thresholds On/Off(V): 16/10; DatasheetVersion: SLVS038G; PackageVersion: revM, Jun-2011; PackageReference: D14; PackageDescription: 14-Pin Plastic Small Outline Integrated Circuit, 8.7 x 3.9 mm, Pitch 1.27 mm Pitch; Supplier 1: Digi-Key; Supplier Part Number 1: TL2842DRE4-ND; Supplier 2: Newark; Supplier Part Number 2: 37K4420; Supplier 3: Mouser; Supplier Part Number 3: 595-TL2842DRE4; Control Method: Current; Eco-Plan: Green (RoHS & no Sb/Br); SubFamily: PWM Controller; Mounting Technology: Surface Mount; Code_JEDEC: MS-012AB; ComponentLink1Description: Datasheet; ComponentLink1URL: http://www.ti.com/general/docs/lit/getliterature.tsp?genericPartNumber=TL2842&fileType=pdf
footprint D14_N (SOIC, 14-Leads, Body 8.7x3.9mm, Pitch 1.27mm, IPC Medium Density)
footprint D14_L (SOIC, 14-Leads, Body 8.7x3.9mm, Pitch 1.27mm, IPC High Density)
footprint D14_M (SOIC, 14-Leads, Body 8.7x3.9mm, Pitch 1.27mm, IPC Low Density)
pins: 1 COMP (out), 2 NC, 3 VFB (in), 4 NC, 5 ISENSE (in), 6 NC, 7 RT/CT, 8 POWER GROUND (power), 9 GND (power), 10 OUTPUT (out), 11 VC (power), 12 VCC (power), 13 NC, 14 REF (out)

## TL2842DRE4-8
designator U?
PWM Controller with Current Control, 100 % Duty Cycle, -40 to +85 degC, 8-pin SOIC (D), Green (RoHS & no Sb/Br); PartNumber: TL2842DRE4-8; Manufacturer: Texas Instruments; Duty Cycle(Max)(%): 100; Frequency(Max)(kHz): 500; Rating: Catalog; Regulated Outputs(#): 1; Topology: Boost, Flyback, Forward; UVLO Thresholds On/Off(V): 16/10; DatasheetVersion: SLVS038G; PackageVersion: revM, Jun-2011; PackageReference: D8; PackageDescription: 8-Pin Plastic Small Outline Integrated Circuit, 4.9 x 3.9 mm, Pitch 1.27 mm Pitch; Supplier 1: Digi-Key; Supplier Part Number 1: TL2842DRE4-8-ND; Supplier 2: Newark; Supplier Part Number 2: 37K4421; Supplier 3: Mouser; Supplier Part Number 3: 595-TL2842DRE4-8; Control Method: Current; Eco-Plan: Green (RoHS & no Sb/Br); SubFamily: PWM Controller; Mounting Technology: Surface Mount; Code_JEDEC: MS-012AA; ComponentLink1Description: Datasheet; ComponentLink1URL: http://www.ti.com/general/docs/lit/getliterature.tsp?genericPartNumber=TL2842&fileType=pdf
footprint D8_N (SOIC, 8-Leads, Body 4.9x3.9mm, Pitch 1.27mm, IPC Medium Density)
footprint D8_L (SOIC, 8-Leads, Body 4.9x3.9mm, Pitch 1.27mm, IPC High Density)
footprint D8_M (SOIC, 8-Leads, Body 4.9x3.9mm, Pitch 1.27mm, IPC Low Density)
pins: 1 COMP (out), 2 VFB (in), 3 ISENSE (in), 4 RT/CT, 5 GND (power), 6 OUTPUT (out), 7 VCC (power), 8 REF (out)

## TL2842DRG4
designator U?
PWM Controller with Current Control, 100 % Duty Cycle, -40 to +85 degC, 14-pin SOIC (D), Green (RoHS & no Sb/Br); PartNumber: TL2842DRG4; Manufacturer: Texas Instruments; Duty Cycle(Max)(%): 100; Frequency(Max)(kHz): 500; Rating: Catalog; Regulated Outputs(#): 1; Topology: Boost, Flyback, Forward; UVLO Thresholds On/Off(V): 16/10; DatasheetVersion: SLVS038G; PackageVersion: revM, Jun-2011; PackageReference: D14; PackageDescription: 14-Pin Plastic Small Outline Integrated Circuit, 8.7 x 3.9 mm, Pitch 1.27 mm Pitch; Supplier 1: Digi-Key; Supplier Part Number 1: TL2842DRG4-ND; Supplier 2: Newark; Supplier Part Number 2: 41M5629; Supplier 3: Mouser; Supplier Part Number 3: 595-TL2842DRG4; Control Method: Current; Eco-Plan: Green (RoHS & no Sb/Br); SubFamily: PWM Controller; Mounting Technology: Surface Mount; Code_JEDEC: MS-012AB; ComponentLink1Description: Datasheet; ComponentLink1URL: http://www.ti.com/general/docs/lit/getliterature.tsp?genericPartNumber=TL2842&fileType=pdf
footprint D14_N (SOIC, 14-Leads, Body 8.7x3.9mm, Pitch 1.27mm, IPC Medium Density)
footprint D14_L (SOIC, 14-Leads, Body 8.7x3.9mm, Pitch 1.27mm, IPC High Density)
footprint D14_M (SOIC, 14-Leads, Body 8.7x3.9mm, Pitch 1.27mm, IPC Low Density)
pins: 1 COMP (out), 2 NC, 3 VFB (in), 4 NC, 5 ISENSE (in), 6 NC, 7 RT/CT, 8 POWER GROUND (power), 9 GND (power), 10 OUTPUT (out), 11 VC (power), 12 VCC (power), 13 NC, 14 REF (out)

## TL2842DRG4-8
designator U?
PWM Controller with Current Control, 100 % Duty Cycle, -40 to +85 degC, 8-pin SOIC (D), Green (RoHS & no Sb/Br); PartNumber: TL2842DRG4-8; Manufacturer: Texas Instruments; Duty Cycle(Max)(%): 100; Frequency(Max)(kHz): 500; Rating: Catalog; Regulated Outputs(#): 1; Topology: Boost, Flyback, Forward; UVLO Thresholds On/Off(V): 16/10; DatasheetVersion: SLVS038G; PackageVersion: revM, Jun-2011; PackageReference: D8; PackageDescription: 8-Pin Plastic Small Outline Integrated Circuit, 4.9 x 3.9 mm, Pitch 1.27 mm Pitch; Supplier 1: Digi-Key; Supplier Part Number 1: TL2842DRG4-8-ND; Supplier 2: Newark; Supplier Part Number 2: 41M5630; Supplier 3: Mouser; Supplier Part Number 3: 595-TL2842DRG4-8; Control Method: Current; Eco-Plan: Green (RoHS & no Sb/Br); SubFamily: PWM Controller; Mounting Technology: Surface Mount; Code_JEDEC: MS-012AA; ComponentLink1Description: Datasheet; ComponentLink1URL: http://www.ti.com/general/docs/lit/getliterature.tsp?genericPartNumber=TL2842&fileType=pdf
footprint D8_N (SOIC, 8-Leads, Body 4.9x3.9mm, Pitch 1.27mm, IPC Medium Density)
footprint D8_L (SOIC, 8-Leads, Body 4.9x3.9mm, Pitch 1.27mm, IPC High Density)
footprint D8_M (SOIC, 8-Leads, Body 4.9x3.9mm, Pitch 1.27mm, IPC Low Density)
pins: 1 COMP (out), 2 VFB (in), 3 ISENSE (in), 4 RT/CT, 5 GND (power), 6 OUTPUT (out), 7 VCC (power), 8 REF (out)

## TL2842P
designator U?
PWM Controller with Current Control, 100 % Duty Cycle, -40 to +85 degC, 8-pin PDIP (P), Pb-Free (RoHS); PartNumber: TL2842P; Manufacturer: Texas Instruments; Duty Cycle(Max)(%): 100; Frequency(Max)(kHz): 500; Rating: Catalog; Regulated Outputs(#): 1; Topology: Boost, Flyback, Forward; UVLO Thresholds On/Off(V): 16/10; DatasheetVersion: SLVS038G; PackageVersion: revE, Apr-2010; PackageReference: P8; PackageDescription: 8-Pin Plastic Dual-In-Line Package, Row Spacing 7.62 mm, Pitch 2.54 mm; Supplier 1: Digi-Key; Supplier Part Number 1: 296-16646-5-ND; Supplier 2: Newark; Supplier Part Number 2: 76C9195; Supplier 3: Mouser; Supplier Part Number 3: 595-TL2842P; Control Method: Current; Eco-Plan: Pb-Free (RoHS); SubFamily: PWM Controller; Mounting Technology: Through Hole; Code_JEDEC: MS-001-BA; ComponentLink1Description: Datasheet; ComponentLink1URL: http://www.ti.com/general/docs/lit/getliterature.tsp?genericPartNumber=TL2842&fileType=pdf
footprint P8 (DIP, 8-Leads, Row Spacing 7.62mm, Pitch 2.54mm, Body 9.6x6.4mm)
pins: 1 COMP, 2 VFB (in), 3 ISENSE (in), 4 RT/CT, 5 GND (power), 6 OUTPUT (out), 7 VCC (power), 8 REF (out)

## TL2842PE4
designator U?
PWM Controller with Current Control, 100 % Duty Cycle, -40 to +85 degC, 8-pin PDIP (P), Pb-Free (RoHS); PartNumber: TL2842PE4; Manufacturer: Texas Instruments; Duty Cycle(Max)(%): 100; Frequency(Max)(kHz): 500; Rating: Catalog; Regulated Outputs(#): 1; Topology: Boost, Flyback, Forward; UVLO Thresholds On/Off(V): 16/10; DatasheetVersion: SLVS038G; PackageVersion: revE, Apr-2010; PackageReference: P8; PackageDescription: 8-Pin Plastic Dual-In-Line Package, Row Spacing 7.62 mm, Pitch 2.54 mm; Supplier 1: Digi-Key; Supplier Part Number 1: TL2842PE4-ND; Supplier 2: Newark; Supplier Part Number 2: 37K4422; Supplier 3: Mouser; Supplier Part Number 3: 595-TL2842PE4; Control Method: Current; Eco-Plan: Pb-Free(RoHS); SubFamily: PWM Controller; Mounting Technology: Through Hole; Code_JEDEC: MS-001-BA; ComponentLink1Description: Datasheet; ComponentLink1URL: http://www.ti.com/general/docs/lit/getliterature.tsp?genericPartNumber=TL2842&fileType=pdf
footprint P8 (DIP, 8-Leads, Row Spacing 7.62mm, Pitch 2.54mm, Body 9.6x6.4mm)
pins: 1 COMP, 2 VFB (in), 3 ISENSE (in), 4 RT/CT, 5 GND (power), 6 OUTPUT (out), 7 VCC (power), 8 REF (out)

## TL2843BD
designator U?
High-Performance Current-Mode PWM Controller with Current Control, 100 % Duty Cycle, -40 to +85 degC, 14-pin SOIC (D), Green (RoHS & no Sb/Br); PartNumber: TL2843BD; Manufacturer: Texas Instruments; Duty Cycle(Max)(%): 100; Frequency(Max)(kHz): 500; Rating: Catalog; Regulated Outputs(#): 1; Topology: Boost, Flyback, Forward; UVLO Thresholds On/Off(V): 8.4/7.6; DatasheetVersion: SLVS610B; PackageVersion: revM, Jun-2011; PackageReference: D14; PackageDescription: 14-Pin Plastic Small Outline Integrated Circuit, 8.7 x 3.9 mm, Pitch 1.27 mm Pitch; Supplier 1: Digi-Key; Supplier Part Number 1: 296-34269-5-ND; Supplier 2: Newark; Supplier Part Number 2: 14M2365; Supplier 3: Mouser; Supplier Part Number 3: 595-TL2843BD; Control Method: Current; Eco-Plan: Green (RoHS & no Sb/Br); SubFamily: PWM Controller; Mounting Technology: Surface Mount; Code_JEDEC: MS-012AB; ComponentLink1Description: Datasheet; ComponentLink1URL: http://www.ti.com/general/docs/lit/getliterature.tsp?genericPartNumber=TL2843B&fileType=pdf
footprint D14_N (SOIC, 14-Leads, Body 8.7x3.9mm, Pitch 1.27mm, IPC Medium Density)
footprint D14_L (SOIC, 14-Leads, Body 8.7x3.9mm, Pitch 1.27mm, IPC High Density)
footprint D14_M (SOIC, 14-Leads, Body 8.7x3.9mm, Pitch 1.27mm, IPC Low Density)
pins: 1 COMP, 2 NC, 3 VFB (in), 4 NC, 5 ISENSE (in), 6 NC, 7 RT/CT, 8 POWER GROUND (power), 9 GND (power), 10 OUTPUT (out), 11 VC (power), 12 VCC (power), 13 NC, 14 VREF (out)